# Altium schematic symbol library MOLEX_MX150.SchLib: 8 symbols
Pins are listed as number, name and electrical type; pins without a type are passive.

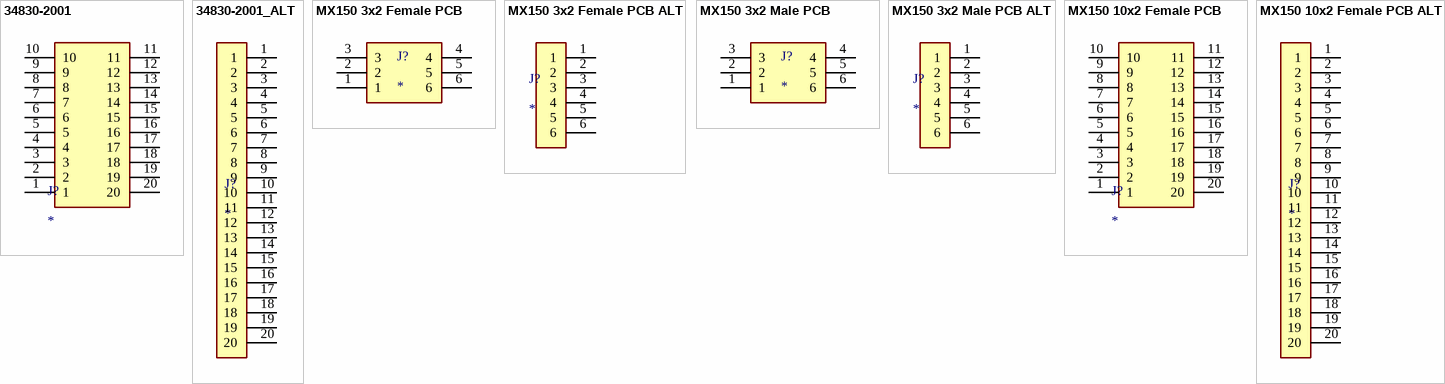
[diagram p0: symbols 34830-2001 to MX150 10x2 Female PCB ALT]

## 34830-2001
designator J?
Connector; Manufacturer_Name: Molex; Manufacturer_Part_Number: 34830-2001; Datasheet Link: https://www.molex.com/webdocs/datasheets/pdf/en-us/0348302001_PCB_HEADERS.pdf; Height: 25.42mm; Mouser Part Number: 538-34830-2001; Mouser Price/Stock: https://www.mouser.co.uk/ProductDetail/Molex/34830-2001?qs=PdnAIJ6Mlf3cw4zbnnbtng%3D%3D
footprint 348302001
pins: 1, 2, 3, 4, 5, 6, 7, 8, 9, 10, 11, 12, 13, 14, 15, 16, 17, 18, 19, 20

## 34830-2001_ALT
designator J?
Connector; Manufacturer_Name: Molex; Manufacturer_Part_Number: 34830-2001; Datasheet Link: https://www.molex.com/webdocs/datasheets/pdf/en-us/0348302001_PCB_HEADERS.pdf; Height: 25.42mm; Mouser Part Number: 538-34830-2001; Mouser Price/Stock: https://www.mouser.co.uk/ProductDetail/Molex/34830-2001?qs=PdnAIJ6Mlf3cw4zbnnbtng%3D%3D
footprint 348302001
pins: 1, 2, 3, 4, 5, 6, 7, 8, 9, 10, 11, 12, 13, 14, 15, 16, 17, 18, 19, 20

## MX150 3x2 Female PCB
designator J?
Connector; Manufacturer_Name: Molex; Manufacturer_Part_Number: 34830-2001; Datasheet Link: https://www.molex.com/webdocs/datasheets/pdf/en-us/0348302001_PCB_HEADERS.pdf; Height: 25.42mm; Mouser Part Number: 538-34830-2001; Mouser Price/Stock: https://www.mouser.co.uk/ProductDetail/Molex/34830-2001?qs=PdnAIJ6Mlf3cw4zbnnbtng%3D%3D
footprint 348302001
pins: 1, 2, 3, 4, 5, 6

## MX150 3x2 Female PCB ALT
designator J?
Connector; Manufacturer_Name: Molex; Manufacturer_Part_Number: 34830-2001; Datasheet Link: https://www.molex.com/webdocs/datasheets/pdf/en-us/0348302001_PCB_HEADERS.pdf; Height: 25.42mm; Mouser Part Number: 538-34830-2001; Mouser Price/Stock: https://www.mouser.co.uk/ProductDetail/Molex/34830-2001?qs=PdnAIJ6Mlf3cw4zbnnbtng%3D%3D
footprint 348302001
pins: 1, 2, 3, 4, 5, 6

## MX150 3x2 Male PCB
designator J?
Connector; Manufacturer_Name: Molex; Manufacturer_Part_Number: 34830-2001; Datasheet Link: https://www.molex.com/webdocs/datasheets/pdf/en-us/0348302001_PCB_HEADERS.pdf; Height: 25.42mm; Mouser Part Number: 538-34830-2001; Mouser Price/Stock: https://www.mouser.co.uk/ProductDetail/Molex/34830-2001?qs=PdnAIJ6Mlf3cw4zbnnbtng%3D%3D
footprint 348302001
pins: 1, 2, 3, 4, 5, 6

## MX150 3x2 Male PCB ALT
designator J?
Connector; Manufacturer_Name: Molex; Manufacturer_Part_Number: 34830-2001; Datasheet Link: https://www.molex.com/webdocs/datasheets/pdf/en-us/0348302001_PCB_HEADERS.pdf; Height: 25.42mm; Mouser Part Number: 538-34830-2001; Mouser Price/Stock: https://www.mouser.co.uk/ProductDetail/Molex/34830-2001?qs=PdnAIJ6Mlf3cw4zbnnbtng%3D%3D
footprint 348302001
pins: 1, 2, 3, 4, 5, 6

## MX150 10x2 Female PCB
designator J?
Connector; Manufacturer_Name: Molex; Manufacturer_Part_Number: 34830-2001; Datasheet Link: https://www.molex.com/webdocs/datasheets/pdf/en-us/0348302001_PCB_HEADERS.pdf; Height: 25.42mm; Mouser Part Number: 538-34830-2001; Mouser Price/Stock: https://www.mouser.co.uk/ProductDetail/Molex/34830-2001?qs=PdnAIJ6Mlf3cw4zbnnbtng%3D%3D
footprint 348302001
pins: 1, 2, 3, 4, 5, 6, 7, 8, 9, 10, 11, 12, 13, 14, 15, 16, 17, 18, 19, 20

## MX150 10x2 Female PCB ALT
designator J?
Connector; Manufacturer_Name: Molex; Manufacturer_Part_Number: 34830-2001; Datasheet Link: https://www.molex.com/webdocs/datasheets/pdf/en-us/0348302001_PCB_HEADERS.pdf; Height: 25.42mm; Mouser Part Number: 538-34830-2001; Mouser Price/Stock: https://www.mouser.co.uk/ProductDetail/Molex/34830-2001?qs=PdnAIJ6Mlf3cw4zbnnbtng%3D%3D
footprint 348302001
pins: 1, 2, 3, 4, 5, 6, 7, 8, 9, 10, 11, 12, 13, 14, 15, 16, 17, 18, 19, 20